# Altium footprint library IC_LM35DZ_LFT4.PcbLib: 1 footprints
Each footprint in its own frame and in the unit in brackets; x right, y up, seen from the top. Pads: shape width x height; smd on the part's side, far side on the other; paste and mask are expansions set on the pad; w line width, h text height; cw(c..) or ccw(c..) is an arc to the next point about the centre after c.
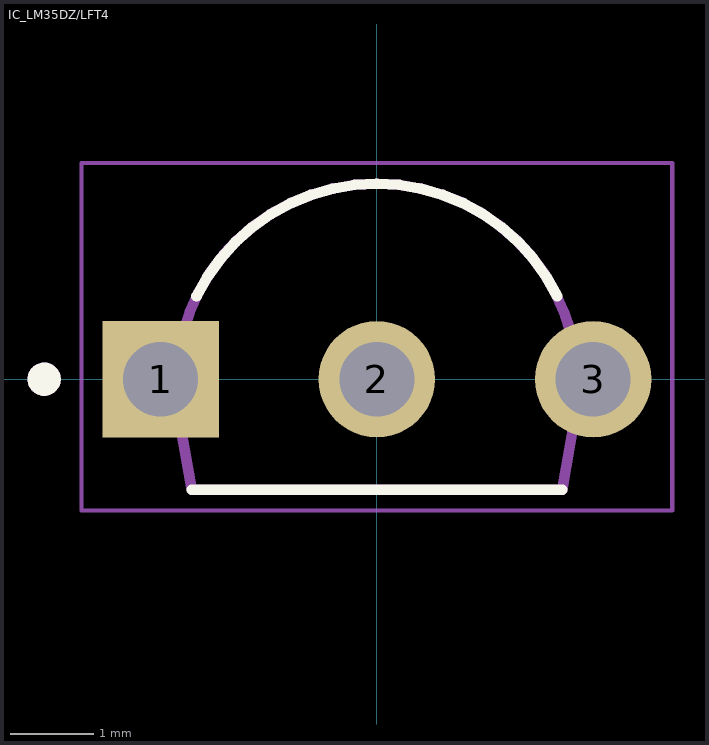
[diagram p0: the footprint, top view; thin cyan lines are the x and y axes]

## IC_LM35DZ/LFT4 [mm]
height 9.34
pads (3):
  rect 1.4x1.4 / inner round 1.4 / far side rect 1.4x1.4 hole 0.9 mask+0.05: 1(-2.6,0)
  round 1.4 hole 0.9 mask+0.05: 2(0,0) 3(2.6,0)
Top Overlay:
  circle w0.2: c-4,0 r0.1
  lines w0.127: -2.226,-1.33 2.226,-1.33 ; -2.168,0.995 cw(c0,-0.062) 2.168,0.995
Assembly Top:
  circle w0.2: c-4,0 r0.1
  lines w0.127: -2.376,-0.481 cw(c0,-0.063) 2.376,-0.481 ; -2.376,-0.481 cw(c0,-0.063) 2.376,-0.481 ; -2.376,-0.481 -2.226,-1.33 2.226,-1.33 2.376,-0.481
Courtyard Top:
  lines w0.05: -3.55,-1.58 3.55,-1.58 3.55,2.6 -3.55,2.6 -3.55,-1.58
3D body "step_temp.STEP": height 9.34, standoff -8.7, extent -2.832,-1.33 2.832,2.35